# Altium schematic symbol library SCH - RF - SHIELD - EMI COVER.SchLib: 1 symbol
Pins are listed as number, name and electrical type; pins without a type are passive.

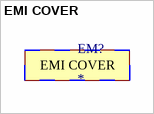
[diagram p0: symbol EMI COVER]

## EMI COVER
designator EM?